# Altium footprint library C_TANT_A(3216).PcbLib: 1 footprints
Each footprint in its own frame and in the unit in brackets; x right, y up, seen from the top. Pads: shape width x height; smd on the part's side, far side on the other; paste and mask are expansions set on the pad; w line width, h text height; cw(c..) or ccw(c..) is an arc to the next point about the centre after c.
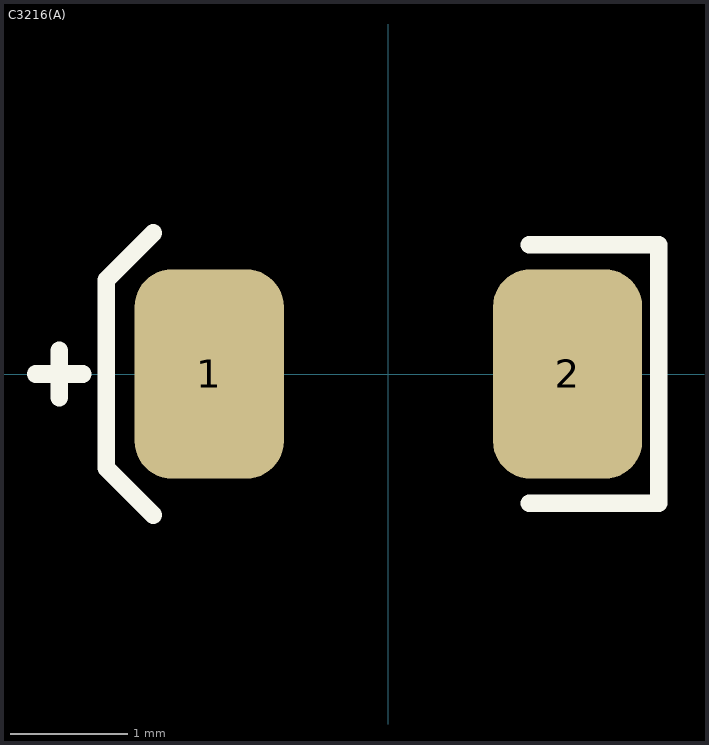
[diagram p0: the footprint, top view; thin cyan lines are the x and y axes]

## C3216(A) [mm]
pads (2):
  rrect50% 1.27x1.78 smd: 1(-1.525,0) 2(1.525,0)
Top Overlay:
  lines w0.15: -3,0 -2.6,0 ; -2.8,-0.2 -2.8,0.2 ; -2,-1.2 -2.4,-0.8 -2.4,0.8 -2,1.2 ; 1.2,-1.1 2.3,-1.1 2.3,1.1 1.2,1.1
3D body "TANTALUM_A.STEP": height 1.61, standoff 0, extent -1.62,-0.8 1.62,0.8